# Altium footprint library L298N_Motor_Driver.PcbLib: 4 footprints
Each footprint in its own frame and in the unit in brackets; x right, y up, seen from the top. Pads: shape width x height; smd on the part's side, far side on the other; paste and mask are expansions set on the pad; w line width, h text height; cw(c..) or ccw(c..) is an arc to the next point about the centre after c.
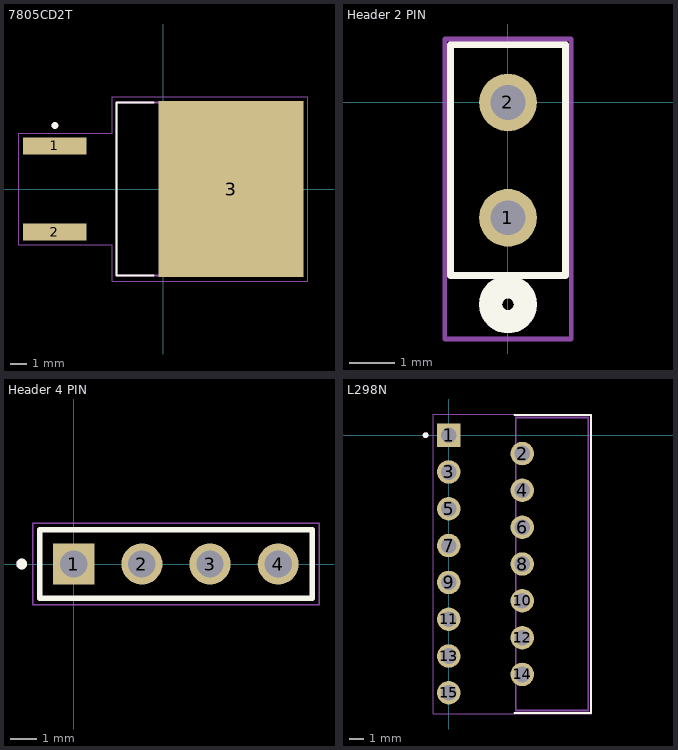
[diagram p0: the footprints below, top view; thin cyan lines are the x and y axes]

## 7805CD2T [mm] "Voltage Reg"
pads (3):
  rect 3.74x1.02 smd: 1(-6.41,2.54) 2(-6.41,-2.54)
  rect 8.56x10.37 smd paste-6: 3(4,0)
Top Overlay:
  circle w0.2: c-6.41,3.75 r0.1
  lines w0.127: -0.593,-5.1 -2.772,-5.1 -2.772,5.1 -0.593,5.1
Top Paste:
  region: 7.85,-0.695 6.57,-0.695 6.57,0.695 7.85,0.695
  region: 7.85,1.385 6.57,1.385 6.57,2.775 7.85,2.775
  region: 7.85,3.465 6.57,3.465 6.57,4.855 7.85,4.855
  region: 7.85,-2.775 6.57,-2.775 6.57,-1.385 7.85,-1.385
  region: 7.85,-4.855 6.57,-4.855 6.57,-3.465 7.85,-3.465
  region: 5.71,-0.695 4.43,-0.695 4.43,0.695 5.71,0.695
  region: 5.71,1.385 4.43,1.385 4.43,2.775 5.71,2.775
  region: 5.71,3.465 4.43,3.465 4.43,4.855 5.71,4.855
  region: 5.71,-2.775 4.43,-2.775 4.43,-1.385 5.71,-1.385
  region: 5.71,-4.855 4.43,-4.855 4.43,-3.465 5.71,-3.465
  region: 3.57,-0.695 2.29,-0.695 2.29,0.695 3.57,0.695
  region: 3.57,1.385 2.29,1.385 2.29,2.775 3.57,2.775
  region: 3.57,3.465 2.29,3.465 2.29,4.855 3.57,4.855
  region: 3.57,-2.775 2.29,-2.775 2.29,-1.385 3.57,-1.385
  region: 3.57,-4.855 2.29,-4.855 2.29,-3.465 3.57,-3.465
  region: 1.43,-0.695 0.15,-0.695 0.15,0.695 1.43,0.695
  region: 1.43,1.385 0.15,1.385 0.15,2.775 1.43,2.775
  region: 1.43,3.465 0.15,3.465 0.15,4.855 1.43,4.855
  region: 1.43,-2.775 0.15,-2.775 0.15,-1.385 1.43,-1.385
  region: 1.43,-4.855 0.15,-4.855 0.15,-3.465 1.43,-3.465
Mechanical 13:
  circle w0.2: c-6.41,3.75 r0.1
  lines w0.127: -2.772,-5.1 6.378,-5.1 6.378,5.1 -2.772,5.1 -2.772,-5.1
Mechanical 15:
  lines w0.05: -8.53,-3.3 -3.023,-3.3 -3.023,-5.435 8.53,-5.435 8.53,5.435 -3.023,5.435 -3.023,3.3 -8.53,3.3 -8.53,-3.3
3D body "step_temp.STEP": height 4.6, standoff -0.23, extent -7.712,-5.1 7.712,5.1

## Header 2 PIN [mil]
pads (2):
  round 50 hole 30: 1(0,-100) 2(0,0)
Top Overlay:
  lines w6: -50,-150 -50,50 50,50 50,-150 -50,-150
  lines w20: -15,-175 ccw(c0,-175) 15,-175 ccw(c0,-175) -15,-175
Mechanical 13:
  lines w6: -50,-150 -50,50 50,50 50,-150 -50,-150
  lines w20: -15,-175 cw(c0,-175) 15,-175 cw(c0,-175) -15,-175
Mechanical 15:
  lines w3.94: -55,-205 55,-205 55,55 -55,55 -55,-205
3D body "TD-101-G-A.stp": height 326, standoff -151, extent -47,-150 47,50

## Header 4 PIN [mm]
pads (4):
  rect 1.53x1.53 / inner round 1.53 / far side rect 1.53x1.53 hole 1.02: 1(0,0)
  round 1.53 hole 1.02: 2(2.54,0) 3(5.08,0) 4(7.62,0)
Top Overlay:
  circle w0.2: c-1.94,0 r0.1
  lines w0.2: -1.27,-1.27 -1.27,1.27 8.89,1.27 8.89,-1.27 -1.27,-1.27
Mechanical 13:
  circle w0.2: c-1.94,0 r0.1
  lines w0.1: -1.27,-1.27 -1.27,1.27 8.89,1.27 8.89,-1.27 -1.27,-1.27
Mechanical 15:
  lines w0.05: -1.52,-1.52 -1.52,1.52 9.14,1.52 9.14,-1.52 -1.52,-1.52
3D body "TSW-104-23-L-S-LL.stp": height 8.38, standoff -2.92, extent -1.27,-1.27 9.017,1.27

## L298N [mm] "Motor Driver"
pads (15):
  rect 1.62x1.62 hole 1.08: 1(0,0)
  round 1.62 hole 1.08: 2(5.08,-1.27) 3(0,-2.54) 4(5.08,-3.81) 5(0,-5.08) 6(5.08,-6.35) 7(0,-7.62) 8(5.08,-8.89) 9(0,-10.16) 10(5.08,-11.43) 11(0,-12.7) 12(5.08,-13.97) 13(0,-15.24) 14(5.08,-16.51) 15(0,-17.78)
Top Overlay:
  circle w0.2: c-1.59,0 r0.1
  lines w0.127: 4.532,-19.177 6.116,-19.177 8.616,-19.177 9.826,-19.177 9.826,1.397 8.616,1.397 6.116,1.397 4.532,1.397
Mechanical 13:
  circle w0.2: c-1.59,0 r0.1
  lines w0.127: 4.63,-18.99 9.63,-18.99 9.63,1.21 4.63,1.21 4.63,-18.99
Mechanical 15:
  lines w0.05: -1.06,-19.24 9.88,-19.24 9.88,1.46 -1.06,1.46 -1.06,-19.24
3D body "L298N--3DModel-STEP-56544.STEP": height 20.55, standoff -4.43, extent -0.365,-18.93 9.525,1.27